# Altium schematic symbol library Molex_2082940030.SchLib: 1 symbol
Pins are listed as number, name and electrical type; pins without a type are passive.

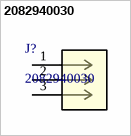
[diagram p0: symbol 2082940030]

## 2082940030
designator J?
Pico-EZmate HC PCB Header, 1.80mm Pitch, Single Row, Gold (Au) Plating, 3 Circuits; Manufacturer_Name: Molex Connector Corporation; Copyright: Copyright (C) 2025 Ultra Librarian. All rights reserved.; Manufacturer_Part_Number: 2082940030; RefDes: RefDes; Type: Type
footprint CONN_2082940000-SD_03_MOL
pins: 1, 2, 3